# EAGLE library part TD-105-T-A (library SAMTEC-Txx_By_element14_Batch_1)
CONN RECEPTACLE, 2.54MM, THT VERT, 10WAY
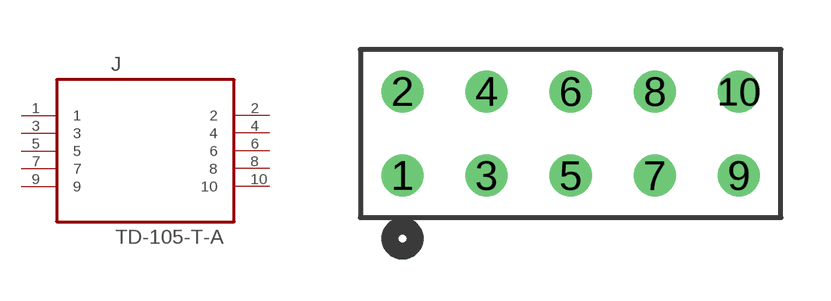
[diagram p5: symbol with the pads of SAMTEC_TD-105-T-A; footprint SAMTEC_TD-105-T-A]

Designator prefix J

## TD-105-T-A (MPN: TD-105-T-A; OC_FARNELL: 2020073; OC_NEWARK: 12P0235; PACKAGE: RECEPTACLE, 2.54MM, THT VERT,10WAY; SUPPLIER: SAMTEC)  [SAMTEC_TD-105-T-A]
1  1  pas
2  2  pas
3  3  pas
4  4  pas
5  5  pas
6  6  pas
7  7  pas
8  8  pas
9  9  pas
10  10  pas

## Footprint SAMTEC_TD-105-T-A (pad centres in mm)
drill 0.762: 1 -10.16,-2.54; 2 -10.16,0; 3 -7.62,-2.54; 4 -7.62,0; 5 -5.08,-2.54; 6 -5.08,0; 7 -2.54,-2.54; 8 -2.54,0; 9 0,-2.54; 10 0,0